# Altium schematic symbol library RGB LED.SchLib: 18 symbols
Pins are listed as number, name and electrical type; pins without a type are passive.

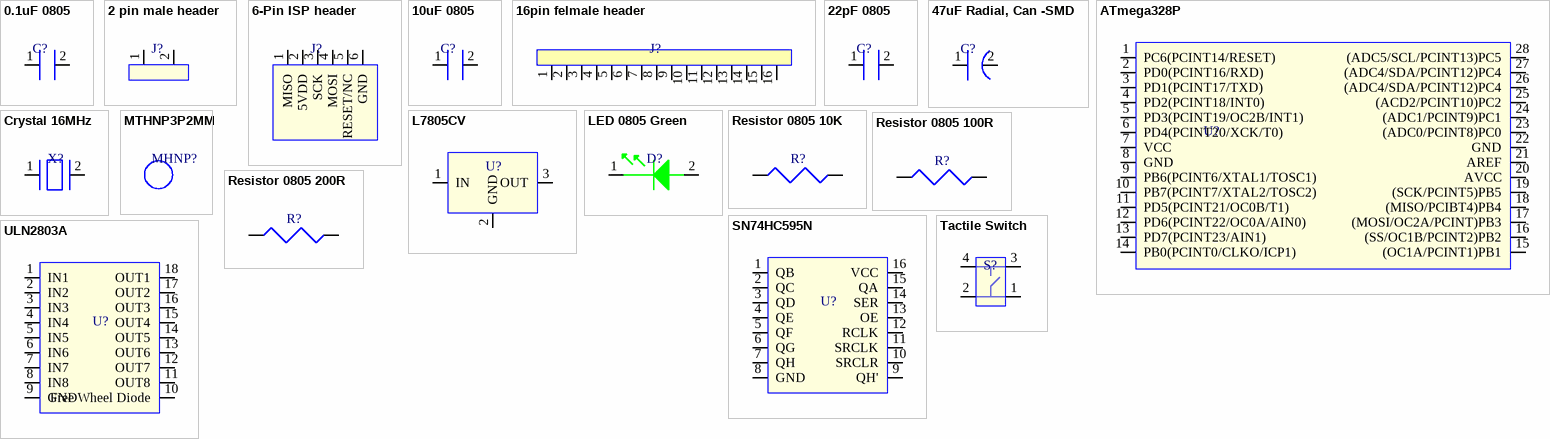
[diagram p0: symbols 0.1uF 0805 to ULN2803A]

## 0.1uF 0805
designator C?  (value not drawn)
Capacitance: 0.1uF; Package: 0805
footprint Cap 0.1uF 0805
pins: 1, 2

## 2 pin male header
designator J?, comment Generic Header, 1X2 Vertical  (value not drawn)
Manufacturer: Molex; Part No: 22232021; Series NO: 6373; Product Name: KK254; Current max per contact: 4A; Voltage max: 500V; Pitch: 2.54mm; Product Category: PCB Headers and Receptacles; Component Type: PCB Header
footprint 22232021
pins: 1 +, 2 -

## 6-Pin ISP header
designator J?  (value not drawn)
No of Pins: 6; No of rows: 2
footprint 2X3 ISP header
pins: 1 MISO, 2 5VDD, 3 SCK, 4 MOSI, 5 RESET/NC, 6 GND

## 10uF 0805
designator C?  (value not drawn)
Capacitance: 10uF; Package: 0805
footprint Cap 10uF 0805
pins: 1, 2

## 16pin felmale header
designator J?  (value not drawn)
Manufacturer: 4ucon technology inc; Product ID: Adafruit 598
footprint 16 pins female header
pins: 1, 2, 3, 4, 5, 6, 7, 8, 9, 10, 11, 12, 13, 14, 15, 16

## 22pF 0805
designator C?  (value not drawn)
Capacitance: 22pF; Package: 0805
footprint CAP 22pF 0805
pins: 1, 2

## 47uF Radial, Can -SMD
designator C?  (value not drawn)
Manufacturer: Panasonic Electronic Components; Manufacturer Product Number: EEE-FK1V470P; Capacitance: 47uF; Tolerance: ±20%; Vtg rated: 35V; Impedance: 360 mOhms; Series: FK; Package: Radial, Can - SMD
footprint cap 47uF radial can
pins: 1, 2

## ATmega328P
designator U?  (value not drawn)
Manufacturer: Microchip Technology; Core Processor: AVR; Core Size: 8-bit; Number of I/O pins: 23; Series: AVR ATmega; Number of pins: 28; Package: 28-DIP
footprint ATmega328P
pins: 1 PC6(PCINT14/RESET), 2 PD0(PCINT16/RXD), 3 PD1(PCINT17/TXD), 4 PD2(PCINT18/INT0), 5 PD3(PCINT19/OC2B/INT1), 6 PD4(PCINT20/XCK/T0), 7 VCC, 8 GND, 9 PB6(PCINT6/XTAL1/TOSC1), 10 PB7(PCINT7/XTAL2/TOSC2), 11 PD5(PCINT21/OC0B/T1), 12 PD6(PCINT22/OC0A/AIN0), 13 PD7(PCINT23/AIN1), 14 PB0(PCINT0/CLKO/ICP1), 15 (OC1A/PCINT1)PB1, 16 (SS/OC1B/PCINT2)PB2, 17 (MOSI/OC2A/PCINT)PB3, 18 (MISO/PCIBT4)PB4, 19 (SCK/PCINT5)PB5, 20 AVCC, 21 AREF, 22 GND, 23 (ADC0/PCINT8)PC0, 24 (ADC1/PCINT9)PC1, 25 (ACD2/PCINT10)PC2, 26 (ADC4/SDA/PCINT12)PC4, 27 (ADC4/SDA/PCINT12)PC4, 28 (ADC5/SCL/PCINT13)PC5

## Crystal 16MHz
designator X?  (value not drawn)
Manufacturer: Abracon LLC; Part No: ABL-16.000MHZ-B2; Frequency: 16MHz; Package: HC-49/US
footprint Crystal 16MHz
pins: 1, 2

## L7805CV
designator U?  (value not drawn)
Manufacturer: STMicroelectronics; Part No: L7805CV; Vtg input (max): 35V; Vtg output (min/fixed): 5V; Current - Output: 1.5A; Mounting Type: SMD; Package: D2PAK
footprint L7805VC
pins: 1 IN, 2 GND, 3 OUT

## LED 0805 Green
designator D?  (value not drawn)
Manufacturer: Lite-On Inc; Part No: LTST-C171GKT; Colour: Green; Forward Voltage Vf: 2.1V; Test Current: 20mA; Pacakage: 0805
footprint LED 0805 Green
pins: 1, 2

## MTHNP3P2MM
designator MHNP?, comment Mounting hole non plated 3.2mm  (value not drawn)
footprint MTHNP3P2MM (Mounting hole non plated)

## Resistor 0805 10K
designator R?  (value not drawn)
Manufacturer: KOA Speer Electronics Inc; Part No: RK73B2A; Resistance: 10K; Power: 1/4W; Tolarance: ±5%; Package: 0805
footprint RES 10K 0805
pins: 1, 2

## Resistor 0805 100R
designator R?  (value not drawn)
Manufacturer: KOA Speer Electronics Inc; Part No: RK73B2A; Resistance: 100R; Power: 1/4W; Tolarance: ±5%; Package: 0805
footprint RES 100R 0805
pins: 1, 2

## Resistor 0805 200R
designator R?  (value not drawn)
Manufacturer: KOA Speer Electronics Inc; Part No: RK73B2A; Resistance: 200R; Power: 1/4W; Tolarance: ±5%; Package: 0805
footprint RES 200R 0805
pins: 1, 2

## SN74HC595N
designator U?  (value not drawn)
Shift Register; Manufacturer: Texas Instrument; Part No: SN74HC595N; Output type: Tri-state; Function: Serial to Parallel, Serial; Vtg Supply: 2V ~ 6V; Series: 74HC; Logic Type: Shift Register; Mounting Type: Through Hole; Package: 16-DIP
footprint SN74HC595N-SOP
pins: 1 QB, 2 QC, 3 QD, 4 QE, 5 QF, 6 QG, 7 QH, 8 GND, 9 QH', 10 SRCLR, 11 SRCLK, 12 RCLK, 13 OE, 14 SER, 15 QA, 16 VCC

## Tactile Switch
designator S?  (value not drawn)
Plunger Type: Flat; Type: Standard B3F 1000 series
footprint Tactile Switch
pins: 1, 2, 3, 4

## ULN2803A
designator U?  (value not drawn)
8-Darlington Arrays; Manufacturer: STMicroelectronics; Part No: ULN2803A; Mounting Type: Through Hole; Package: 18-DIP
footprint ULN2803A
pins: 1 IN1, 2 IN2, 3 IN3, 4 IN4, 5 IN5, 6 IN6, 7 IN7, 8 IN8, 9 GND, 10 Free Wheel Diode, 11 OUT8, 12 OUT7, 13 OUT6, 14 OUT5, 15 OUT4, 16 OUT3, 17 OUT2, 18 OUT1